# EAGLE library part ADP2302 (library library)
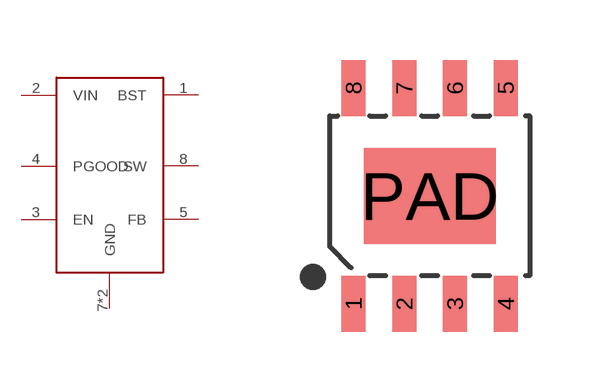
[diagram p0: symbol with the pads of SOIC8G-1.27-5X4MM; footprint SOIC8G-1.27-5X4MM]

Designator prefix -

## ADP2302  [SOIC8G-1.27-5X4MM]
1  BST
2  VIN
3  EN
4  PGOOD
5  FB
7  GND
8  SW
PAD  GND

## Footprint SOIC8G-1.27-5X4MM (pad centres in mm)
smd 0.6 x 1.4: 1 -1.905,-2.7; 2 -0.635,-2.7; 3 0.635,-2.7; 4 1.905,-2.7; 5 1.905,2.7; 6 0.635,2.7; 7 -0.635,2.7; 8 -1.905,2.7
smd 3.3 x 2.4: PAD 0,0